# Altium footprint library RT9193.PcbLib: 1 footprints
Each footprint in its own frame and in the unit in brackets; x right, y up, seen from the top. Pads: shape width x height; smd on the part's side, far side on the other; paste and mask are expansions set on the pad; w line width, h text height; cw(c..) or ccw(c..) is an arc to the next point about the centre after c.
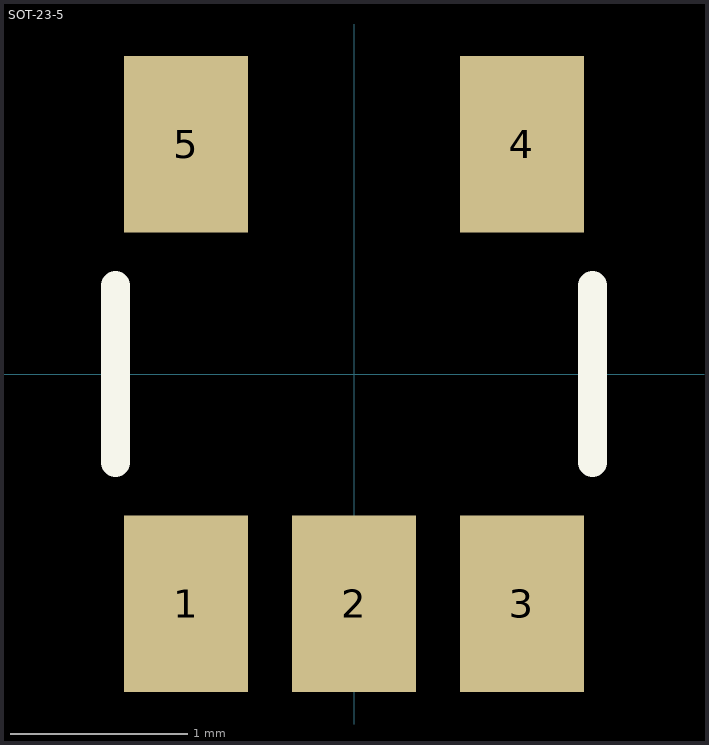
[diagram p0: the footprint, top view; thin cyan lines are the x and y axes]

## SOT-23-5 [mm]
height 1.2
pads (5):
  rect 0.7x1 smd: 1(-0.95,-1.3) 2(0,-1.3) 3(0.95,-1.3) 4(0.95,1.3) 5(-0.95,1.3)
Top Overlay:
  lines w0.165: -1.35,-0.5 -1.35,0.5 ; 1.35,-0.5 1.35,0.5
3D body "CircuitWorks-SOT-23-5 (1).step": height 1.05, standoff -0.05, extent -1.5,-1.25 1.5,1.25